# Altium footprint library 74991214400.PCBLIB: 1 footprints
Each footprint in its own frame and in the unit in brackets; x right, y up, seen from the top. Pads: shape width x height; smd on the part's side, far side on the other; paste and mask are expansions set on the pad; w line width, h text height; cw(c..) or ccw(c..) is an arc to the next point about the centre after c.
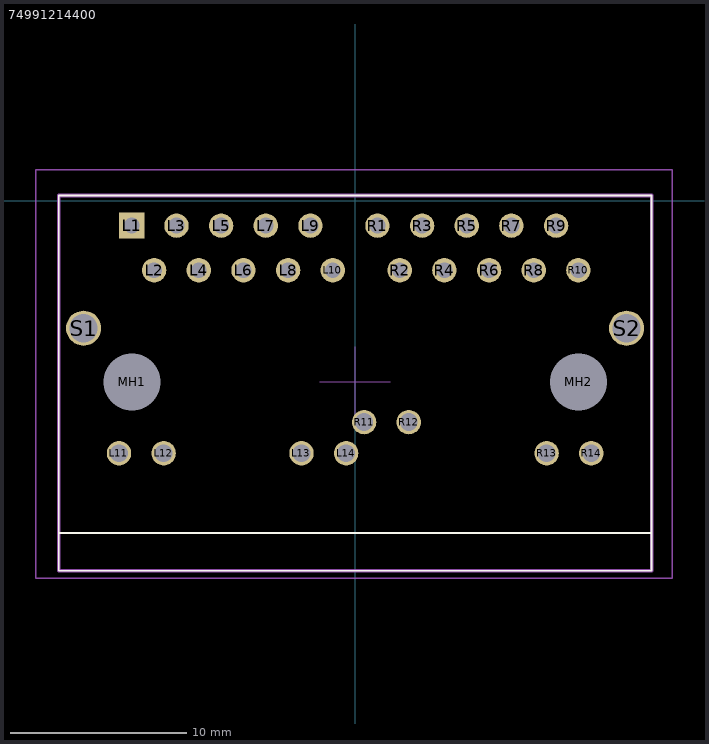
[diagram p0: the footprint, top view; thin cyan lines are the x and y axes]

## 74991214400 [mm]
pads (32):
  rect 1.462x1.462 hole 0.9: L1(-12.7,-1.4)
  round 1.386 hole 0.9: L2(-11.43,-3.94) L3(-10.16,-1.4) L4(-8.89,-3.94) L5(-7.62,-1.4) L6(-6.35,-3.94) L7(-5.08,-1.4) L8(-3.81,-3.94) L9(-2.54,-1.4) L10(-1.27,-3.94) R1(1.27,-1.4) R2(2.54,-3.94) R3(3.81,-1.4) R4(5.08,-3.94) R5(6.35,-1.4) R6(7.62,-3.94) R7(8.89,-1.4) R8(10.16,-3.94) R9(11.43,-1.4) R10(12.7,-3.94)
  round 1.386 hole 1.02: L11(-13.43,-14.35) L12(-10.89,-14.35) L13(-3.05,-14.35) L14(-0.51,-14.35) R11(0.51,-12.58) R12(3.05,-12.58) R13(10.89,-14.35) R14(13.43,-14.35)
  round 1.65 hole 3.25 unplated: MH1(-12.7,-10.29) MH2(12.7,-10.29)
  round 2 hole 1.6: S1(-15.44,-7.24) S2(15.44,-7.24)
Top Overlay:
  lines w0.1: -16.86,-18.88 16.86,-18.88 ; -16.86,-21.04 16.86,-21.04 16.86,0.31 -16.86,0.31 -16.86,-21.04
Top Assembly:
  lines w0.2: -16.86,-21.04 -16.86,0.31 16.86,0.31 16.86,-21.04 -16.86,-21.04
Top Courtyard:
  lines w0.1: -18.161,-21.463 -18.161,1.778 18.034,1.778 18.034,-21.463 -18.161,-21.463
Top Designator:
  text ".Designator" at -2.671,-10.794 h0.76
Top Component Center:
  lines w0.05: -2,-10.29 2,-10.29 ; 0,-12.29 0,-8.29
3D body "STP_WE-RJ45LAN_74991214400 (rev1).stp": height 14.69, standoff -3.77, extent -16.843,-21.015 16.843,0.635